# Altium schematic symbol library CANmon.SchLib: 30 symbols
Pins are listed as number, name and electrical type; pins without a type are passive.

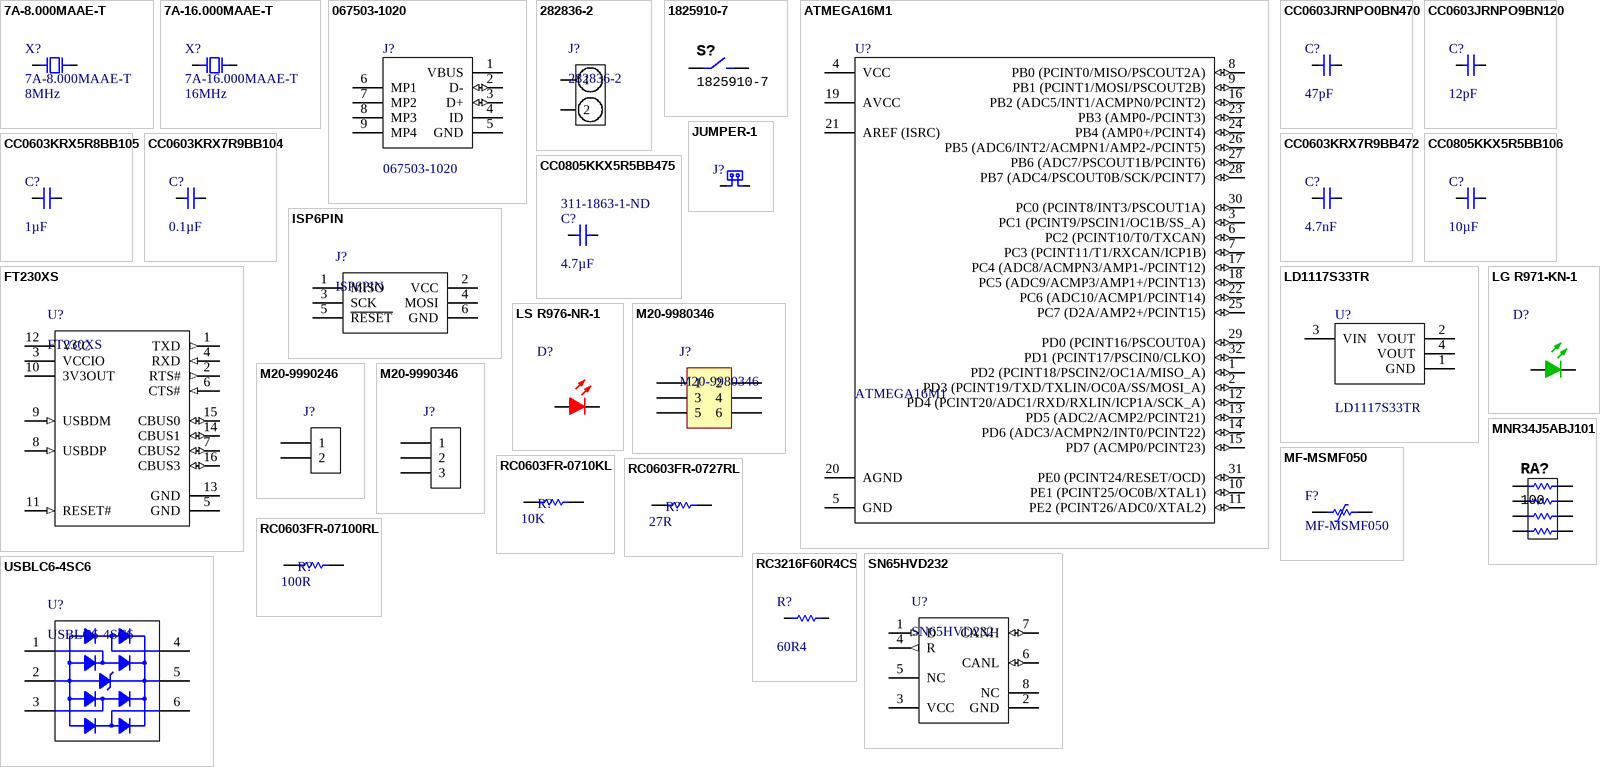
[diagram p0: symbols 7A-8.000MAAE-T to USBLC6-4SC6]

## 7A-8.000MAAE-T
designator X?  value 8MHz
SMD Crystal Oscillator 12 pF; Load Capacitance: 12pF; Supplier 1: Digi-Key; Supplier Part Number 1: 887-1740-1-ND
footprint TXC 7A (SMD Crystal)
pins: 1, 2

## 7A-16.000MAAE-T
designator X?  value 16MHz
SMD Crystal Oscillator 12 pF; Load Capacitance: 12pF; Supplier 1: Digi-Key; Supplier Part Number 1: 887-1747-1-ND
footprint TXC 7A (SMD Crystal)
pins: 1, 2

## 067503-1020
designator J?
USB Mini-B; Supplier 1: Digi-Key; Supplier Part Number 1: WM5461CT-ND
footprint MOLX-67503-1020_V (Mini USB Connector, SMT, Righer Angle)
pins: 1 VBUS (power), 2 D- (io), 3 D+ (io), 4 ID, 5 GND (power), 6 MP1, 7 MP2, 8 MP3, 9 MP4

## 282836-2
designator J?
Terminal Block 2-pos Side Entry 5mm; Supplier 1: Digi-Key; Supplier Part Number 1: A98076-ND
footprint 282836-2
pins: 1, 2

## 1825910-7
designator S?
footprint 1825910-7
pins: 1,2, 3,4

## ATMEGA16M1
designator U?
ATmega16M1 microcontroller; Supplier 1: Digi-Key; Supplier Part Number 1: ATMEGA16M1-AU-ND
footprint 32-TQFP-7x7-0.8 (Thin QFP, 32-Leads, Body 7x7mm, Pitch 0.8mm, IPC Medium Density)
pins: 1 PD2 (PCINT18/PSCIN2/OC1A/MISO_A) (io), 2 PD3 (PCINT19/TXD/TXLIN/OC0A/SS/MOSI_A) (io), 3 PC1 (PCINT9/PSCIN1/OC1B/SS_A) (io), 4 VCC (power), 5 GND (power), 6 PC2 (PCINT10/T0/TXCAN) (io), 7 PC3 (PCINT11/T1/RXCAN/ICP1B) (io), 8 PB0 (PCINT0/MISO/PSCOUT2A) (io), 9 PB1 (PCINT1/MOSI/PSCOUT2B) (io), 10 PE1 (PCINT25/OC0B/XTAL1) (io), 11 PE2 (PCINT26/ADC0/XTAL2) (io), 12 PD4 (PCINT20/ADC1/RXD/RXLIN/ICP1A/SCK_A) (io), 13 PD5 (ADC2/ACMP2/PCINT21) (io), 14 PD6 (ADC3/ACMPN2/INT0/PCINT22) (io), 15 PD7 (ACMP0/PCINT23) (io), 16 PB2 (ADC5/INT1/ACMPN0/PCINT2) (io), 17 PC4 (ADC8/ACMPN3/AMP1-/PCINT12) (io), 18 PC5 (ADC9/ACMP3/AMP1+/PCINT13) (io), 19 AVCC (power), 20 AGND (power), 21 AREF (ISRC) (power), 22 PC6 (ADC10/ACMP1/PCINT14) (io), 23 PB3 (AMP0-/PCINT3) (io), 24 PB4 (AMP0+/PCINT4) (io), 25 PC7 (D2A/AMP2+/PCINT15) (io), 26 PB5 (ADC6/INT2/ACMPN1/AMP2-/PCINT5) (io), 27 PB6 (ADC7/PSCOUT1B/PCINT6) (io), 28 PB7 (ADC4/PSCOUT0B/SCK/PCINT7) (io), 29 PD0 (PCINT16/PSCOUT0A) (io), 30 PC0 (PCINT8/INT3/PSCOUT1A) (io), 31 PE0 (PCINT24/RESET/OCD) (io), 32 PD1 (PCINT17/PSCIN0/CLKO) (io)

## CC0603JRNPO0BN470
designator C?  value 47pF  (hidden comment: CC0603JRNPO0BN470)
CAP 47pF 5% 100V C0G,NP0 0603; Package: 0603; Tolerance: 5%; Voltage: 100V; Dielectric: C0G,NP0; Supplier 1: Digi-Key; Supplier Part Number 1: 311-1761-1-ND
footprint CAP-0603-M (Chip Capacitor, Body 1.6x0.8mm, Height 1.0mm, IPC Low Density)
pins: 1, 2

## CC0603JRNPO9BN120
designator C?  value 12pF  (hidden comment: CC0603JRNPO9BN120)
CAP 12pF 5% 50V C0G,NP0 0603; Package: 0603; Tolerance: 5%; Voltage: 50V; Dielectric: C0G,NP0; Supplier 1: Digi-Key; Supplier Part Number 1: 311-1059-1-ND
footprint CAP-0603-M (Chip Capacitor, Body 1.6x0.8mm, Height 1.0mm, IPC Low Density)
pins: 1, 2

## CC0603KRX5R8BB105
designator C?  value 1µF  (hidden comment: CC0603KRX5R8BB105)
CAP 1µF 10% 25V X5R 0603; Package: 0603; Tolerance: 10%; Voltage: 25V; Dielectric: X5R; Supplier 1: Digi-Key; Supplier Part Number 1: 311-1445-1-ND
footprint CAP-0603-M (Chip Capacitor, Body 1.6x0.8mm, Height 1.0mm, IPC Low Density)
pins: 1, 2

## CC0603KRX7R9BB104
designator C?  value 0.1µF  (hidden comment: CC0603KRX7R9BB104)
CAP 0.1µF 10% 50V X7R 0603; Supplier 1: Digi-Key; Supplier Part Number 1: 311-1344-1-ND
footprint CAP-0603-M (Chip Capacitor, Body 1.6x0.8mm, Height 1.0mm, IPC Low Density)
pins: 1, 2

## CC0603KRX7R9BB472
designator C?  value 4.7nF  (hidden comment: CC0603KRX7R9BB472)
CAP 4.7nF 10% 50V X7R 0603; Supplier 1: Digi-Key; Supplier Part Number 1: 311-1083-1-ND
footprint CAP-0603-M (Chip Capacitor, Body 1.6x0.8mm, Height 1.0mm, IPC Low Density)
pins: 1, 2

## CC0805KKX5R5BB106
designator C?  value 10µF  (hidden comment: CC0805KKX5R5BB106)
CAP 10µF 10% 6.3V X5R 0805; Package: 0805; Tolerance: 10%; Voltage: 6.3V; Dielectric: X5R; Supplier 1: Digi-Key; Supplier Part Number 1: 311-1459-1-ND
footprint CAP-0805-M (Chip Capacitor, Body 2.0x1.2mm, Height 1.55mm, IPC Low Density)
pins: 1, 2

## CC0805KKX5R5BB475
designator C?, comment value 4.7µF  Supplier Part Number 1: 311-1863-1-ND  (hidden comment: CC0805KKX5R6BB475)
CAP 4.7µF 10% 6.3V X5R 0805; Voltage: 10V; Package: 0805; Tolerance: 10%; Dielectric: X5R; Supplier 1: Digi-Key
footprint CAP-0805-M (Chip Capacitor, Body 2.0x1.2mm, Height 1.55mm, IPC Low Density)
pins: 1, 2

## FT230XS
designator U?
USB-RS232 Bridge 16-SSOP; Supplier 1: Digi-Key; Supplier Part Number 1: 768-1135-1-ND
footprint 16-SSOP-0.635mm (SOP, 16-Leads, Body 4.9x3.9mm, Pitch 0.635mm, IPC Medium Density)
pins: 1 TXD (out) "Transmit Asynchronous Data Output.", 2 RTS# (out) "Request to Send Control Output / Handshake Signal.", 3 VCCIO (power) "1V8 -3V3 supply for the IO cells.", 4 RXD (in) "Receiving Asynchronous Data Input.", 5 GND (power) "0V Ground input.", 6 CTS# (in) "Clear To Send Control Input / Handshake Signal.", 7 CBUS2 (io) "Configurable CBUS I/O Pin. Function of this pin is configured in the device MTP memory. The default configuration is TXLED#.", 8 USBDP (in) "USB Data Signal Plus.", 9 USBDM (in) "USB Data Signal Minus.", 10 3V3OUT (power) "3V3 output at 50mA. May be used to power VCCIO. When VCC is 3V3; pin 10 is an input pin and should be connected to pin 12.", 11 RESET# (in) "Reset input (active low).", 12 VCC (power) "5 V (or 3V3) supply to IC.", 13 GND (power) "0V Ground input.", 14 CBUS1 (io) "Configurable CBUS I/O Pin. Function of this pin is configured in the device MTP memory. The default configuration is RXLED#.", 15 CBUS0 (io) "Configurable CBUS I/O Pin. Function of this pin is configured in the device MTP memory. The default configuration is TXDEN.", 16 CBUS3 (io) "Configurable CBUS I/O Pin. Function of this pin is configured in the device MTP memory. The default configuration is SLEEP#."

## ISP6PIN
designator J?
AVR ISP 2.54mm Header 2x3-Pin; Supplier 1: Digi-Key; Supplier Part Number 1: 952-2121-ND
footprint ISP6PIN
footprint M20-9980346
pins: 1 MISO, 2 VCC, 3 SCK, 4 MOSI, 5 ~{RESET}, 6 GND

## JUMPER-1
designator J?, comment M20-9990246  (value not drawn)
2.54mm Header Jumper; Supplier 1: Digi-Key; Supplier Part Number 1: 952-2262-ND
footprint M20-9990246
pins: 1, 2

## LD1117S33TR
designator U?
LDO 3.3V 0.8A SOT223; Supplier 1: Digi-Key; Supplier Part Number 1: 497-1242-1-ND
footprint SOT-223_N (SOT223, 4-Leads, Body 6.5x3.5mm, Pitch 2.3mm, Lead Span 7mm, IPC Medium Density)
pins: 1 GND (power), 2 VOUT (power), 3 VIN (power), 4 VOUT (power)

## LG R971-KN-1
designator D?
CHIPLED 0805 Green; Supplier 1: Digi-Key; Supplier Part Number 1: 475-1410-1-ND
footprint LED-0805-GRN (Chip Diode, 2-Leads, Body 2.00x1.25mm, IPC Medium Density)
pins: 1 A, 2 K

## LS R976-NR-1
designator D?
CHIPLED 0805 Red; Supplier 1: Digi-Key; Supplier Part Number 1: 475-1278-1-ND
footprint LED-0805-RED (Chip Diode, 2-Leads, Body 2.00x1.25mm, IPC Medium Density)
pins: 1 A, 2 K

## M20-9980346
designator J?
2.54mm Header 2x3-Pin; Supplier 1: Digi-Key; Supplier Part Number 1: 952-2121-ND
footprint M20-9980346
pins: 1, 2, 3, 4, 5, 6

## M20-9990246
designator J?  (value not drawn)
2.54mm Header 1x2-Pin; Supplier 1: Digi-Key; Supplier Part Number 1: 952-2262-ND
footprint M20-9990246
pins: 1, 2

## M20-9990346
designator J?  (value not drawn)
2.54mm Header 1x3-Pin; Supplier 1: Digi-Key; Supplier Part Number 1: 952-2264-ND
footprint M20-9990346
pins: 1, 2, 3

## MF-MSMF050
designator F?
PTC Resettable Fuse 0.50A; Supplier 1: Digi-Key; Supplier Part Number 1: MF-MSMF050-2CT-ND
footprint MF-MSMF050 (SMD, 2-Leads, Body 4.55x3.24mm)
pins: 1, 2

## MNR34J5ABJ101
designator RA?, comment 100
footprint CAC-127P519X309-8M (Chip Array, ConvexS, 8-Leads, Pitch 1.27mm,  Body 5.20x3.10mm,  IPC Low Density)
pins: 1, 2, 3, 4, 5, 6, 7, 8

## RC0603FR-0710KL
designator R?  value 10K  (hidden comment: RC0603FR-0710KL)
RES 0.1W 10K 1% 0603; Supplier 1: Digi-Key; Supplier Part Number 1: 311-10.0KHRCT-ND
footprint RES-0603-M (Chip Resistor, Body 1.6x0.8mm, IPC Medium Density)
pins: 1, 2
1 alternate drawing of the same symbol

## RC0603FR-0727RL
designator R?  value 27R  (hidden comment: RC0603FR-0727RL)
RES 0.1W 27R 1% 0603; Supplier 1: Digi-Key; Supplier Part Number 1: 311-27.0HRCT-ND
footprint RES-0603-M (Chip Resistor, Body 1.6x0.8mm, IPC Medium Density)
pins: 1, 2
1 alternate drawing of the same symbol

## RC0603FR-07100RL
designator R?  value 100R  (hidden comment: RC0603FR-07100RL)
RES 0.1W 100R 1% 0603; Supplier 1: Digi-Key; Supplier Part Number 1: 311-100HRCT-ND
footprint RES-0603-M (Chip Resistor, Body 1.6x0.8mm, IPC Medium Density)
pins: 1, 2
1 alternate drawing of the same symbol

## RC3216F60R4CS
designator R?  value 60R4  (hidden comment: RC3216F60R4CS)
RES 60R4 1% 0.25W 1206; Supplier 1: Digi-Key; Supplier Part Number 1: 1276-5663-1-ND
footprint RES-1206-M (Chip Resistor, Body 3.2x1.6mm, IPC Low Density)
pins: 1, 2

## SN65HVD232
designator U?
CAN transceiver; Supplier 1: Digi-Key; Supplier Part Number 1: 296-26344-1-ND
footprint 8-SOIC (SOIC, 8-Leads, Body 4.9x3.9mm, Pitch 1.27mm, IPC Medium Density)
pins: 1 D (in) "Driver input", 2 GND (power) "Ground", 3 VCC (power) "Supply voltage", 4 R (out) "Receiver output", 5 NC "No connection", 6 CANL (io) "Low bus output", 7 CANH (io) "High bus outpu", 8 NC "No connection"

## USBLC6-4SC6
designator U?
USB ESD Protector; Supplier 1: Digi-Key; Supplier Part Number 1: 497-4492-1-ND
footprint SOT95P280X145-6N (SOT23, 6-Leads, Body 2.92x2.80mm, Pitch 0.95mm, IPC Medium Density)
pins: 1, 2, 3, 4, 5, 6